# Altium schematic symbol library AP64202SP.Schlib: 1 symbol
Pins are listed as number, name and electrical type; pins without a type are passive.

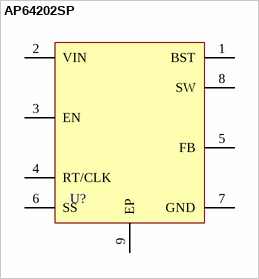
[diagram p0: symbol AP64202SP]

## AP64202SP
designator U?
3.8V TO 40V INPUT, 2A LOW IQ SYNCHRONOUS BUCK WITH INTERNAL COMPENSATION AND LOW SIDE SWITCH
pins: 1 BST, 2 VIN (power), 3 EN, 4 RT/CLK, 5 FB, 6 SS, 7 GND (power), 8 SW (power), 9 EP (power)